# Altium schematic symbol library SYPS-2-22HP+.SchLib: 1 symbol
Pins are listed as number, name and electrical type; pins without a type are passive.

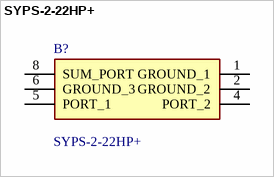
[diagram p0: symbol SYPS-2-22HP+]

## SYPS-2-22HP+
designator B?
RF Power Divider 2 MHz ~ 200 MHz Isolation (Min) 18dB, 1.45 VSWR (Max), 4 Imbalance (Max) 6-SMD, No Lead; Manufacturer_Name: Mini-Circuits; Geometry.Height: 6.35mm; Manufacturer_Part_Number: SYPS-2-22HP+; Mouser Part Number: 139-SYPS-2-22HP; Mouser Price/Stock: https://www.mouser.co.uk/ProductDetail/Mini-Circuits/SYPS-2-22HP%2b?qs=xZ%2FP%252Ba9zWqY1riY9ziwtAg%3D%3D; Arrow Part Number: *; Arrow Price/Stock: *; Datasheet Link: https://www.minicircuits.com/pdfs/SYPS-2-22HP+.pdf
footprint SYPS222HP
pins: 1 GROUND_1, 2 GROUND_2, 4 PORT_2, 5 PORT_1, 6 GROUND_3, 8 SUM_PORT